# Altium schematic symbol library Rising Clamp System WR-TBL_10.16 mm.SchLib: 81 symbols
Pins are listed as number, name and electrical type; pins without a type are passive.

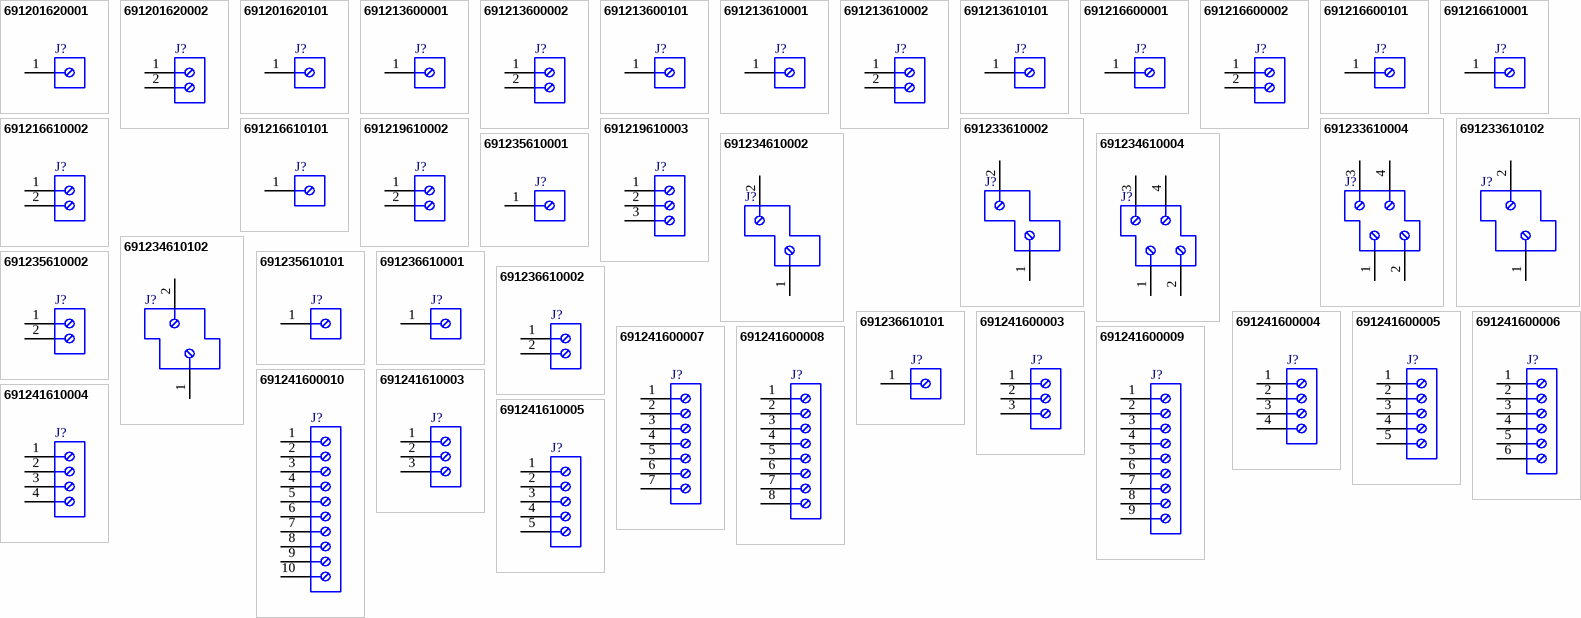
[diagram p0: symbols 691201620001 to 691241610005]

## 691201620001
designator J?
Serie 2016 - 10.16 mm 45deg Entry with Rising Cage Clamp WR-TBL, 1 pin; Part Number: 691201620001; Pin Number: 1; ComponentLink1Description: Manufacturer; ComponentLink1URL: http://www.we-online.de; ComponentLink2Description: Datasheet; ComponentLink2URL: http://katalog.we-online.de/em/datasheet/691201620001.pdf; Published Date: June 2018; Publisher: Wurth Elektronik; Pitch: 10.16 mm; Operating Temperature: -30 to 120 degC; Mounting Technology: THT; Packaging: Box
footprint 691201620001
pins: 1

## 691201620002
designator J?
Serie 2016 - 10.16 mm 45deg Entry with Rising Cage Clamp WR-TBL, 2 pin; Part Number: 691201620002; Pin Number: 2; ComponentLink1Description: Manufacturer; ComponentLink1URL: http://www.we-online.de; ComponentLink2Description: Datasheet; ComponentLink2URL: http://katalog.we-online.de/em/datasheet/691201620002.pdf; Published Date: June 2018; Publisher: Wurth Elektronik; Pitch: 10.16 mm; Operating Temperature: -30 to 120 degC; Mounting Technology: THT; Packaging: Box
footprint 691201620002
pins: 1, 2

## 691201620101
designator J?
Serie 2016 - 10.16 mm 45deg Entry with Rising Cage Clamp WR-TBL, 1 pin; Part Number: 691201620101; Pin Number: 1; ComponentLink1Description: Manufacturer; ComponentLink1URL: http://www.we-online.de; ComponentLink2Description: Datasheet; ComponentLink2URL: http://katalog.we-online.de/em/datasheet/691201620101.pdf; Published Date: June 2018; Publisher: Wurth Elektronik; Pitch: 10.16 mm; Operating Temperature: -30 to 120 degC; Mounting Technology: THT; Packaging: Box
footprint 691201620101
pins: 1

## 691213600001
designator J?
Serie 2136 - 10.16 mm Vertical Entry with Rising Cage Clamp WR-TBL, 1 pin; Part Number: 691213600001; Pin Number: 1; ComponentLink1Description: Manufacturer; ComponentLink1URL: http://www.we-online.de; ComponentLink2Description: Datasheet; ComponentLink2URL: http://katalog.we-online.de/em/datasheet/691213600001.pdf; Published Date: June 2018; Publisher: Wurth Elektronik; Pitch: 10.16 mm; Operating Temperature: -30 to 120 degC; Mounting Technology: THT; Packaging: Box
footprint 691213600001
pins: 1

## 691213600002
designator J?
Serie 2136 - 10.16 mm Vertical Entry with Rising Cage Clamp WR-TBL, 2 pin; Part Number: 691213600002; Pin Number: 2; ComponentLink1Description: Manufacturer; ComponentLink1URL: http://www.we-online.de; ComponentLink2Description: Datasheet; ComponentLink2URL: http://katalog.we-online.de/em/datasheet/691213600002.pdf; Published Date: June 2018; Publisher: Wurth Elektronik; Pitch: 10.16 mm; Operating Temperature: -30 to 120 degC; Mounting Technology: THT; Packaging: Box
footprint 691213600002
pins: 1, 2

## 691213600101
designator J?
Serie 2136 - 10.16 mm Vertical Entry with Rising Cage Clamp WR-TBL, 1 pin; Part Number: 691213600101; Pin Number: 1; ComponentLink1Description: Manufacturer; ComponentLink1URL: http://www.we-online.de; ComponentLink2Description: Datasheet; ComponentLink2URL: http://katalog.we-online.de/em/datasheet/691213600101.pdf; Published Date: June 2018; Publisher: Wurth Elektronik; Pitch: 10.16 mm; Operating Temperature: -30 to 120 degC; Mounting Technology: THT; Packaging: Box
footprint 691213600101
pins: 1

## 691213610001
designator J?
Serie 2136 - 10.16 mm Horizontal Entry with Rising Cage Clamp WR-TBL, 1 pin; Part Number: 691213610001; Pin Number: 1; ComponentLink1Description: Manufacturer; ComponentLink1URL: http://www.we-online.de; ComponentLink2Description: Datasheet; ComponentLink2URL: http://katalog.we-online.de/em/datasheet/691213610001.pdf; Published Date: June 2018; Publisher: Wurth Elektronik; Pitch: 10.16 mm; Operating Temperature: -30 to 120 degC; Mounting Technology: THT; Packaging: Box
footprint 691213610001
pins: 1

## 691213610002
designator J?
Serie 2136 - 10.16 mm Horizontal Entry with Rising Cage Clamp WR-TBL, 2 pin; Part Number: 691213610002; Pin Number: 2; ComponentLink1Description: Manufacturer; ComponentLink1URL: http://www.we-online.de; ComponentLink2Description: Datasheet; ComponentLink2URL: http://katalog.we-online.de/em/datasheet/691213610002.pdf; Published Date: June 2018; Publisher: Wurth Elektronik; Pitch: 10.16 mm; Operating Temperature: -30 to 120 degC; Mounting Technology: THT; Packaging: Box
footprint 691213610002
pins: 1, 2

## 691213610101
designator J?
Serie 2136 - 10.16 mm Horizontal Entry with Rising Cage Clamp WR-TBL, 1 pin; Part Number: 691213610101; Pin Number: 1; ComponentLink1Description: Manufacturer; ComponentLink1URL: http://www.we-online.de; ComponentLink2Description: Datasheet; ComponentLink2URL: http://katalog.we-online.de/em/datasheet/691213610101.pdf; Published Date: June 2018; Publisher: Wurth Elektronik; Pitch: 10.16 mm; Operating Temperature: -30 to 120 degC; Mounting Technology: THT; Packaging: Box
footprint 691213610101
pins: 1

## 691216600001
designator J?
Serie 2166 - 10.16 mm Vertical Entry with Rising Cage Clamp WR-TBL, 1 pin; Part Number: 691216600001; Pin Number: 1; ComponentLink1Description: Manufacturer; ComponentLink1URL: http://www.we-online.de; ComponentLink2Description: Datasheet; ComponentLink2URL: http://katalog.we-online.de/em/datasheet/691216600001.pdf; Published Date: June 2018; Publisher: Wurth Elektronik; Pitch: 10.16 mm; Operating Temperature: -30 to 120 degC; Mounting Technology: THT; Packaging: Box
footprint 691216600001
pins: 1

## 691216600002
designator J?
Serie 2166 - 10.16 mm Vertical Entry with Rising Cage Clamp WR-TBL, 2 pin; Part Number: 691216600002; Pin Number: 2; ComponentLink1Description: Manufacturer; ComponentLink1URL: http://www.we-online.de; ComponentLink2Description: Datasheet; ComponentLink2URL: http://katalog.we-online.de/em/datasheet/691216600002.pdf; Published Date: June 2018; Publisher: Wurth Elektronik; Pitch: 10.16 mm; Operating Temperature: -30 to 120 degC; Mounting Technology: THT; Packaging: Box
footprint 691216600002
pins: 1, 2

## 691216600101
designator J?
Serie 2166 - 10.16 mm Vertical Entry with Rising Cage Clamp WR-TBL, 1 pin; Part Number: 691216600101; Pin Number: 1; ComponentLink1Description: Manufacturer; ComponentLink1URL: http://www.we-online.de; ComponentLink2Description: Datasheet; ComponentLink2URL: http://katalog.we-online.de/em/datasheet/691216600101.pdf; Published Date: June 2018; Publisher: Wurth Elektronik; Pitch: 10.16 mm; Operating Temperature: -30 to 120 degC; Mounting Technology: THT; Packaging: Box
footprint 691216600101
pins: 1

## 691216610001
designator J?
Serie 2166 - 10.16 mm Horizontal Entry with Rising Cage Clamp WR-TBL, 1 pin; Part Number: 691216610001; Pin Number: 1; ComponentLink1Description: Manufacturer; ComponentLink1URL: http://www.we-online.de; ComponentLink2Description: Datasheet; ComponentLink2URL: http://katalog.we-online.de/em/datasheet/691216610001.pdf; Published Date: June 2018; Publisher: Wurth Elektronik; Pitch: 10.16 mm; Operating Temperature: -30 to 120 degC; Mounting Technology: THT; Packaging: Box
footprint 691216610001
pins: 1

## 691216610002
designator J?
Serie 2166 - 10.16 mm Horizontal Entry with Rising Cage Clamp WR-TBL, 2 pin; Part Number: 691216610002; Pin Number: 2; ComponentLink1Description: Manufacturer; ComponentLink1URL: http://www.we-online.de; ComponentLink2Description: Datasheet; ComponentLink2URL: http://katalog.we-online.de/em/datasheet/691216610002.pdf; Published Date: June 2018; Publisher: Wurth Elektronik; Pitch: 10.16 mm; Operating Temperature: -30 to 120 degC; Mounting Technology: THT; Packaging: Box
footprint 691216610002
pins: 1, 2

## 691216610101
designator J?
Serie 2166 - 10.16 mm Horizontal Entry with Rising Cage Clamp WR-TBL, 1 pin; Part Number: 691216610101; Pin Number: 1; ComponentLink1Description: Manufacturer; ComponentLink1URL: http://www.we-online.de; ComponentLink2Description: Datasheet; ComponentLink2URL: http://katalog.we-online.de/em/datasheet/691216610101.pdf; Published Date: June 2018; Publisher: Wurth Elektronik; Pitch: 10.16 mm; Operating Temperature: -30 to 120 degC; Mounting Technology: THT; Packaging: Box
footprint 691216610101
pins: 1

## 691219610002
designator J?
Serie 2196 - 10.16 mm Horizontal Entry Modular WR-TBL, 2 pin; Part Number: 691219610002; Pin Number: 2; ComponentLink1Description: Manufacturer; ComponentLink1URL: http://www.we-online.de; ComponentLink2Description: Datasheet; ComponentLink2URL: http://katalog.we-online.de/em/datasheet/6912196100xx.pdf; Published Date: June 2018; Publisher: Wurth Elektronik; Pitch: 10.16 mm; Operating Temperature: -40 to 105 degC; Mounting Technology: THT; Packaging: Box
footprint 691219610002
pins: 1, 2

## 691219610003
designator J?
Serie 2196 - 10.16 mm Horizontal Entry Modular WR-TBL, 3 pin; Part Number: 691219610003; Pin Number: 3; ComponentLink1Description: Manufacturer; ComponentLink1URL: http://www.we-online.de; ComponentLink2Description: Datasheet; ComponentLink2URL: http://katalog.we-online.de/em/datasheet/6912196100xx.pdf; Published Date: June 2018; Publisher: Wurth Elektronik; Pitch: 10.16 mm; Operating Temperature: -40 to 105 degC; Mounting Technology: THT; Packaging: Box
footprint 691219610003
pins: 1, 2, 3

## 691233610002
designator J?
Serie 2336 - 10.16 mm Horizontal Entry with Rising Cage Clamp WR-TBL, 2 pin; Part Number: 691233610002; Pin Number: 2; ComponentLink1Description: Manufacturer; ComponentLink1URL: http://www.we-online.de; ComponentLink2Description: Datasheet; ComponentLink2URL: http://katalog.we-online.de/em/datasheet/691233610002.pdf; Published Date: June 2018; Publisher: Wurth Elektronik; Pitch: 10.16 mm; Operating Temperature: -30 to 120 degC; Mounting Technology: THT; Packaging: Box
footprint 691233610002
pins: 1, 2

## 691233610004
designator J?
Serie 2336 - 10.16 mm Horizontal Entry with Rising Cage Clamp WR-TBL, 4 pin; Part Number: 691233610004; Pin Number: 4; ComponentLink1Description: Manufacturer; ComponentLink1URL: http://www.we-online.de; ComponentLink2Description: Datasheet; ComponentLink2URL: http://katalog.we-online.de/em/datasheet/691233610004.pdf; Published Date: June 2018; Publisher: Wurth Elektronik; Pitch: 10.16 mm; Operating Temperature: -30 to 120 degC; Mounting Technology: THT; Packaging: Box
footprint 691233610004
pins: 1, 2, 3, 4

## 691233610102
designator J?
Serie 2336 - 10.16 mm Horizontal Entry with Rising Cage Clamp WR-TBL, 2 pin; Part Number: 691233610102; Pin Number: 2; ComponentLink1Description: Manufacturer; ComponentLink1URL: http://www.we-online.de; ComponentLink2Description: Datasheet; ComponentLink2URL: http://katalog.we-online.de/em/datasheet/691233610102.pdf; Published Date: June 2018; Publisher: Wurth Elektronik; Pitch: 10.16 mm; Operating Temperature: -30 to 120 degC; Mounting Technology: THT; Packaging: Box
footprint 691233610102
pins: 1, 2

## 691234610002
designator J?
Serie 2346 - 10.16 mm Horizontal Entry with Rising Cage Clamp WR-TBL, 2 pin; Part Number: 691234610002; Pin Number: 2; ComponentLink1Description: Manufacturer; ComponentLink1URL: http://www.we-online.de; ComponentLink2Description: Datasheet; ComponentLink2URL: http://katalog.we-online.de/em/datasheet/691234610002.pdf; Published Date: June 2018; Publisher: Wurth Elektronik; Pitch: 10.16 mm; Operating Temperature: -30 to 120 degC; Mounting Technology: THT; Packaging: Box
footprint 691234610002
pins: 1, 2

## 691234610004
designator J?
Serie 2346 - 10.16 mm Horizontal Entry with Rising Cage Clamp WR-TBL, 4 pin; Part Number: 691234610004; Pin Number: 4; ComponentLink1Description: Manufacturer; ComponentLink1URL: http://www.we-online.de; ComponentLink2Description: Datasheet; ComponentLink2URL: http://katalog.we-online.de/em/datasheet/691234610004.pdf; Published Date: June 2018; Publisher: Wurth Elektronik; Pitch: 10.16 mm; Operating Temperature: -30 to 120 degC; Mounting Technology: THT; Packaging: Box
footprint 691234610004
pins: 1, 2, 3, 4

## 691234610102
designator J?
Serie 2346 - 10.16 mm Horizontal Entry with Rising Cage Clamp WR-TBL, 2 pin; Part Number: 691234610102; Pin Number: 2; ComponentLink1Description: Manufacturer; ComponentLink1URL: http://www.we-online.de; ComponentLink2Description: Datasheet; ComponentLink2URL: http://katalog.we-online.de/em/datasheet/691234610102.pdf; Published Date: June 2018; Publisher: Wurth Elektronik; Pitch: 10.16 mm; Operating Temperature: -30 to 120 degC; Mounting Technology: THT; Packaging: Box
footprint 691234610102
pins: 1, 2

## 691235610001
designator J?
Serie 2356 - 10.16 mm Horizontal Entry with Rising Cage Clamp WR-TBL, 1 pin; Part Number: 691235610001; Pin Number: 1; ComponentLink1Description: Manufacturer; ComponentLink1URL: http://www.we-online.de; ComponentLink2Description: Datasheet; ComponentLink2URL: http://katalog.we-online.de/em/datasheet/691235610001.pdf; Published Date: June 2018; Publisher: Wurth Elektronik; Pitch: 10.16 mm; Operating Temperature: -30 to 120 degC; Mounting Technology: THT; Packaging: Box
footprint 691235610001
pins: 1

## 691235610002
designator J?
Serie 2356 - 10.16 mm Horizontal Entry with Rising Cage Clamp WR-TBL, 2 pin; Part Number: 691235610002; Pin Number: 2; ComponentLink1Description: Manufacturer; ComponentLink1URL: http://www.we-online.de; ComponentLink2Description: Datasheet; ComponentLink2URL: http://katalog.we-online.de/em/datasheet/691235610002.pdf; Published Date: June 2018; Publisher: Wurth Elektronik; Pitch: 10.16 mm; Operating Temperature: -30 to 120 degC; Mounting Technology: THT; Packaging: Box
footprint 691235610002
pins: 1, 2

## 691235610101
designator J?
Serie 2356 - 10.16 mm Horizontal Entry with Rising Cage Clamp WR-TBL, 1 pin; Part Number: 691235610101; Pin Number: 1; ComponentLink1Description: Manufacturer; ComponentLink1URL: http://www.we-online.de; ComponentLink2Description: Datasheet; ComponentLink2URL: http://katalog.we-online.de/em/datasheet/691235610101.pdf; Published Date: June 2018; Publisher: Wurth Elektronik; Pitch: 10.16 mm; Operating Temperature: -30 to 120 degC; Mounting Technology: THT; Packaging: Box
footprint 691235610101
pins: 1

## 691236610001
designator J?
Serie 2366 - 10.16 mm Horizontal Entry with Rising Cage Clamp WR-TBL, 1 pin; Part Number: 691236610001; Pin Number: 1; ComponentLink1Description: Manufacturer; ComponentLink1URL: http://www.we-online.de; ComponentLink2Description: Datasheet; ComponentLink2URL: http://katalog.we-online.de/em/datasheet/691236610001.pdf; Published Date: June 2018; Publisher: Wurth Elektronik; Pitch: 10.16 mm; Operating Temperature: -30 to 120 degC; Mounting Technology: THT; Packaging: Box
footprint 691236610001
pins: 1

## 691236610002
designator J?
Serie 2366 - 10.16 mm Horizontal Entry with Rising Cage Clamp WR-TBL, 2 pin; Part Number: 691236610002; Pin Number: 2; ComponentLink1Description: Manufacturer; ComponentLink1URL: http://www.we-online.de; ComponentLink2Description: Datasheet; ComponentLink2URL: http://katalog.we-online.de/em/datasheet/691236610002.pdf; Published Date: June 2018; Publisher: Wurth Elektronik; Pitch: 10.16 mm; Operating Temperature: -30 to 120 degC; Mounting Technology: THT; Packaging: Box
footprint 691236610002
pins: 1, 2

## 691236610101
designator J?
Serie 2366 - 10.16 mm Horizontal Entry with Rising Cage Clamp WR-TBL, 1 pin; Part Number: 691236610101; Pin Number: 1; ComponentLink1Description: Manufacturer; ComponentLink1URL: http://www.we-online.de; ComponentLink2Description: Datasheet; ComponentLink2URL: http://katalog.we-online.de/em/datasheet/691236610101.pdf; Published Date: June 2018; Publisher: Wurth Elektronik; Pitch: 10.16 mm; Operating Temperature: -30 to 120 degC; Mounting Technology: THT; Packaging: Box
footprint 691236610101
pins: 1

## 691241600003
designator J?
Serie 2416 - 10.16 mm Vertical Entry with Rising Cage Clamp WR-TBL, 3 pin; Part Number: 691241600003; Pin Number: 3; ComponentLink1Description: Manufacturer; ComponentLink1URL: http://www.we-online.de; ComponentLink2Description: Datasheet; ComponentLink2URL: http://katalog.we-online.de/em/datasheet/691241600003.pdf; Published Date: June 2018; Publisher: Wurth Elektronik; Pitch: 10.16 mm; Operating Temperature: -30 to 120 degC; Mounting Technology: THT; Packaging: Box
footprint 691241600003
pins: 1, 2, 3

## 691241600004
designator J?
Serie 2416 - 10.16 mm Vertical Entry with Rising Cage Clamp WR-TBL, 4 pin; Part Number: 691241600004; Pin Number: 4; ComponentLink1Description: Manufacturer; ComponentLink1URL: http://www.we-online.de; ComponentLink2Description: Datasheet; ComponentLink2URL: http://katalog.we-online.de/em/datasheet/691241600004.pdf; Published Date: June 2018; Publisher: Wurth Elektronik; Pitch: 10.16 mm; Operating Temperature: -30 to 120 degC; Mounting Technology: THT; Packaging: Box
footprint 691241600004
pins: 1, 2, 3, 4

## 691241600005
designator J?
Serie 2416 - 10.16 mm Vertical Entry with Rising Cage Clamp WR-TBL, 5 pin; Part Number: 691241600005; Pin Number: 5; ComponentLink1Description: Manufacturer; ComponentLink1URL: http://www.we-online.de; ComponentLink2Description: Datasheet; ComponentLink2URL: http://katalog.we-online.de/em/datasheet/691241600005.pdf; Published Date: June 2018; Publisher: Wurth Elektronik; Pitch: 10.16 mm; Operating Temperature: -30 to 120 degC; Mounting Technology: THT; Packaging: Box
footprint 691241600005
pins: 1, 2, 3, 4, 5

## 691241600006
designator J?
Serie 2416 - 10.16 mm Vertical Entry with Rising Cage Clamp WR-TBL, 6 pin; Part Number: 691241600006; Pin Number: 6; ComponentLink1Description: Manufacturer; ComponentLink1URL: http://www.we-online.de; ComponentLink2Description: Datasheet; ComponentLink2URL: http://katalog.we-online.de/em/datasheet/691241600006.pdf; Published Date: June 2018; Publisher: Wurth Elektronik; Pitch: 10.16 mm; Operating Temperature: -30 to 120 degC; Mounting Technology: THT; Packaging: Box
footprint 691241600006
pins: 1, 2, 3, 4, 5, 6

## 691241600007
designator J?
Serie 2416 - 10.16 mm Vertical Entry with Rising Cage Clamp WR-TBL, 7 pin; Part Number: 691241600007; Pin Number: 7; ComponentLink1Description: Manufacturer; ComponentLink1URL: http://www.we-online.de; ComponentLink2Description: Datasheet; ComponentLink2URL: http://katalog.we-online.de/em/datasheet/691241600007.pdf; Published Date: June 2018; Publisher: Wurth Elektronik; Pitch: 10.16 mm; Operating Temperature: -30 to 120 degC; Mounting Technology: THT; Packaging: Box
footprint 691241600007
pins: 1, 2, 3, 4, 5, 6, 7

## 691241600008
designator J?
Serie 2416 - 10.16 mm Vertical Entry with Rising Cage Clamp WR-TBL, 8 pin; Part Number: 691241600008; Pin Number: 8; ComponentLink1Description: Manufacturer; ComponentLink1URL: http://www.we-online.de; ComponentLink2Description: Datasheet; ComponentLink2URL: http://katalog.we-online.de/em/datasheet/691241600008.pdf; Published Date: June 2018; Publisher: Wurth Elektronik; Pitch: 10.16 mm; Operating Temperature: -30 to 120 degC; Mounting Technology: THT; Packaging: Box
footprint 691241600008
pins: 1, 2, 3, 4, 5, 6, 7, 8

## 691241600009
designator J?
Serie 2416 - 10.16 mm Vertical Entry with Rising Cage Clamp WR-TBL, 9 pin; Part Number: 691241600009; Pin Number: 9; ComponentLink1Description: Manufacturer; ComponentLink1URL: http://www.we-online.de; ComponentLink2Description: Datasheet; ComponentLink2URL: http://katalog.we-online.de/em/datasheet/691241600009.pdf; Published Date: June 2018; Publisher: Wurth Elektronik; Pitch: 10.16 mm; Operating Temperature: -30 to 120 degC; Mounting Technology: THT; Packaging: Box
footprint 691241600009
pins: 1, 2, 3, 4, 5, 6, 7, 8, 9

## 691241600010
designator J?
Serie 2416 - 10.16 mm Vertical Entry with Rising Cage Clamp WR-TBL, 10 pin; Part Number: 691241600010; Pin Number: 10; ComponentLink1Description: Manufacturer; ComponentLink1URL: http://www.we-online.de; ComponentLink2Description: Datasheet; ComponentLink2URL: http://katalog.we-online.de/em/datasheet/691241600010.pdf; Published Date: June 2018; Publisher: Wurth Elektronik; Pitch: 10.16 mm; Operating Temperature: -30 to 120 degC; Mounting Technology: THT; Packaging: Box
footprint 691241600010
pins: 1, 2, 3, 4, 5, 6, 7, 8, 9, 10

## 691241610003
designator J?
Serie 2416 - 10.16 mm Horizontal Entry with Rising Cage Clamp WR-TBL, 3 pin; Part Number: 691241610003; Pin Number: 3; ComponentLink1Description: Manufacturer; ComponentLink1URL: http://www.we-online.de; ComponentLink2Description: Datasheet; ComponentLink2URL: http://katalog.we-online.de/em/datasheet/691241610003.pdf; Published Date: June 2018; Publisher: Wurth Elektronik; Pitch: 10.16 mm; Operating Temperature: -30 to 120 degC; Mounting Technology: THT; Packaging: Box
footprint 691241610003
pins: 1, 2, 3

## 691241610004
designator J?
Serie 2416 - 10.16 mm Horizontal Entry with Rising Cage Clamp WR-TBL, 4 pin; Part Number: 691241610004; Pin Number: 4; ComponentLink1Description: Manufacturer; ComponentLink1URL: http://www.we-online.de; ComponentLink2Description: Datasheet; ComponentLink2URL: http://katalog.we-online.de/em/datasheet/691241610004.pdf; Published Date: June 2018; Publisher: Wurth Elektronik; Pitch: 10.16 mm; Operating Temperature: -30 to 120 degC; Mounting Technology: THT; Packaging: Box
footprint 691241610004
pins: 1, 2, 3, 4

## 691241610005
designator J?
Serie 2416 - 10.16 mm Horizontal Entry with Rising Cage Clamp WR-TBL, 5 pin; Part Number: 691241610005; Pin Number: 5; ComponentLink1Description: Manufacturer; ComponentLink1URL: http://www.we-online.de; ComponentLink2Description: Datasheet; ComponentLink2URL: http://katalog.we-online.de/em/datasheet/691241610005.pdf; Published Date: June 2018; Publisher: Wurth Elektronik; Pitch: 10.16 mm; Operating Temperature: -30 to 120 degC; Mounting Technology: THT; Packaging: Box
footprint 691241610005
pins: 1, 2, 3, 4, 5

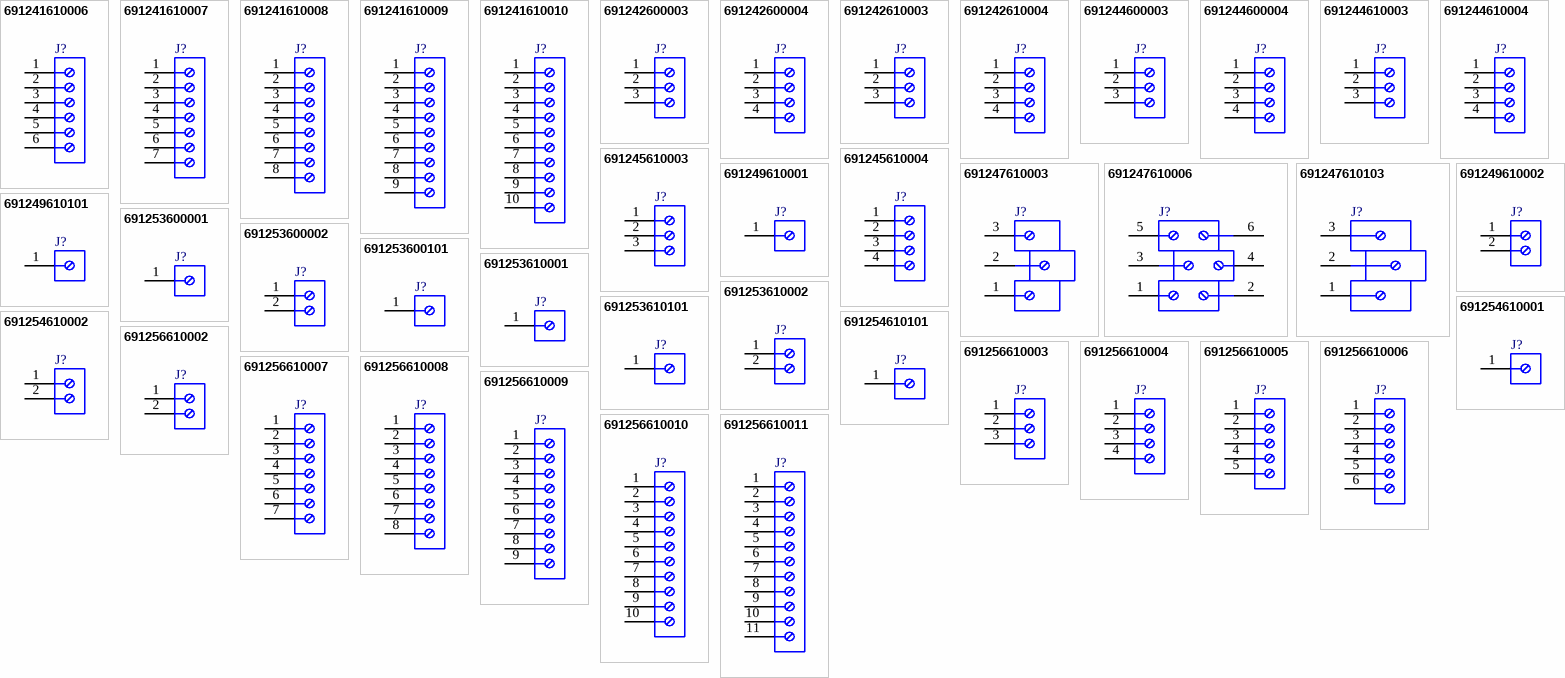
[diagram p1: symbols 691241610006 to 691256610011]

## 691241610006
designator J?
Serie 2416 - 10.16 mm Horizontal Entry with Rising Cage Clamp WR-TBL, 6 pin; Part Number: 691241610006; Pin Number: 6; ComponentLink1Description: Manufacturer; ComponentLink1URL: http://www.we-online.de; ComponentLink2Description: Datasheet; ComponentLink2URL: http://katalog.we-online.de/em/datasheet/691241610006.pdf; Published Date: June 2018; Publisher: Wurth Elektronik; Pitch: 10.16 mm; Operating Temperature: -30 to 120 degC; Mounting Technology: THT; Packaging: Box
footprint 691241610006
pins: 1, 2, 3, 4, 5, 6

## 691241610007
designator J?
Serie 2416 - 10.16 mm Horizontal Entry with Rising Cage Clamp WR-TBL, 7 pin; Part Number: 691241610007; Pin Number: 7; ComponentLink1Description: Manufacturer; ComponentLink1URL: http://www.we-online.de; ComponentLink2Description: Datasheet; ComponentLink2URL: http://katalog.we-online.de/em/datasheet/691241610007.pdf; Published Date: June 2018; Publisher: Wurth Elektronik; Pitch: 10.16 mm; Operating Temperature: -30 to 120 degC; Mounting Technology: THT; Packaging: Box
footprint 691241610007
pins: 1, 2, 3, 4, 5, 6, 7

## 691241610008
designator J?
Serie 2416 - 10.16 mm Horizontal Entry with Rising Cage Clamp WR-TBL, 8 pin; Part Number: 691241610008; Pin Number: 8; ComponentLink1Description: Manufacturer; ComponentLink1URL: http://www.we-online.de; ComponentLink2Description: Datasheet; ComponentLink2URL: http://katalog.we-online.de/em/datasheet/691241610008.pdf; Published Date: June 2018; Publisher: Wurth Elektronik; Pitch: 10.16 mm; Operating Temperature: -30 to 120 degC; Mounting Technology: THT; Packaging: Box
footprint 691241610008
pins: 1, 2, 3, 4, 5, 6, 7, 8

## 691241610009
designator J?
Serie 2416 - 10.16 mm Horizontal Entry with Rising Cage Clamp WR-TBL, 9 pin; Part Number: 691241610009; Pin Number: 9; ComponentLink1Description: Manufacturer; ComponentLink1URL: http://www.we-online.de; ComponentLink2Description: Datasheet; ComponentLink2URL: http://katalog.we-online.de/em/datasheet/691241610009.pdf; Published Date: June 2018; Publisher: Wurth Elektronik; Pitch: 10.16 mm; Operating Temperature: -30 to 120 degC; Mounting Technology: THT; Packaging: Box
footprint 691241610009
pins: 1, 2, 3, 4, 5, 6, 7, 8, 9

## 691241610010
designator J?
Serie 2416 - 10.16 mm Horizontal Entry with Rising Cage Clamp WR-TBL, 10 pin; Part Number: 691241610010; Pin Number: 10; ComponentLink1Description: Manufacturer; ComponentLink1URL: http://www.we-online.de; ComponentLink2Description: Datasheet; ComponentLink2URL: http://katalog.we-online.de/em/datasheet/691241610010.pdf; Published Date: June 2018; Publisher: Wurth Elektronik; Pitch: 10.16 mm; Operating Temperature: -30 to 120 degC; Mounting Technology: THT; Packaging: Box
footprint 691241610010
pins: 1, 2, 3, 4, 5, 6, 7, 8, 9, 10

## 691242600003
designator J?
Serie 2426 - 10.16 mm Vertical Entry Modular with Rising Cage Clamp WR-TBL, 3 pin; Part Number: 691242600003; Pin Number: 3; ComponentLink1Description: Manufacturer; ComponentLink1URL: http://www.we-online.de; ComponentLink2Description: Datasheet; ComponentLink2URL: http://katalog.we-online.de/em/datasheet/691242600003.pdf; Published Date: June 2018; Publisher: Wurth Elektronik; Pitch: 10.16 mm; Operating Temperature: -30 to 120 degC; Mounting Technology: THT; Packaging: Box
footprint 691242600003
pins: 1, 2, 3

## 691242600004
designator J?
Serie 2426 - 10.16 mm Vertical Entry Modular with Rising Cage Clamp WR-TBL, 4 pin; Part Number: 691242600004; Pin Number: 4; ComponentLink1Description: Manufacturer; ComponentLink1URL: http://www.we-online.de; ComponentLink2Description: Datasheet; ComponentLink2URL: http://katalog.we-online.de/em/datasheet/691242600004.pdf; Published Date: June 2018; Publisher: Wurth Elektronik; Pitch: 10.16 mm; Operating Temperature: -30 to 120 degC; Mounting Technology: THT; Packaging: Box
footprint 691242600004
pins: 1, 2, 3, 4

## 691242610003
designator J?
Serie 2426 - 10.16 mm Horizontal Entry Modular with Rising Cage Clamp WR-TBL, 3 pin; Part Number: 691242610003; Pin Number: 3; ComponentLink1Description: Manufacturer; ComponentLink1URL: http://www.we-online.de; ComponentLink2Description: Datasheet; ComponentLink2URL: http://katalog.we-online.de/em/datasheet/691242610003.pdf; Published Date: June 2018; Publisher: Wurth Elektronik; Pitch: 10.16 mm; Operating Temperature: -30 to 120 degC; Mounting Technology: THT; Packaging: Box
footprint 691242610003
pins: 1, 2, 3

## 691242610004
designator J?
Serie 2426 - 10.16 mm Horizontal Entry Modular with Rising Cage Clamp WR-TBL, 4 pin; Part Number: 691242610004; Pin Number: 4; ComponentLink1Description: Manufacturer; ComponentLink1URL: http://www.we-online.de; ComponentLink2Description: Datasheet; ComponentLink2URL: http://katalog.we-online.de/em/datasheet/691242610004.pdf; Published Date: June 2018; Publisher: Wurth Elektronik; Pitch: 10.16 mm; Operating Temperature: -30 to 120 degC; Mounting Technology: THT; Packaging: Box
footprint 691242610004
pins: 1, 2, 3, 4

## 691244600003
designator J?
Serie 2446 - 10.16 mm Vertical Entry Modular with Rising Clamp WR-TBL, 3 pin; Part Number: 691244600003; Pin Number: 3; ComponentLink1Description: Manufacturer; ComponentLink1URL: http://www.we-online.de; ComponentLink2Description: Datasheet; ComponentLink2URL: http://katalog.we-online.de/em/datasheet/6912446000xx.pdf; Published Date: June 2018; Publisher: Wurth Elektronik; Pitch: 10.16 mm; Operating Temperature: -30 to 120 degC; Mounting Technology: THT; Packaging: Box
footprint 691244600003
pins: 1, 2, 3

## 691244600004
designator J?
Serie 2446 - 10.16 mm Vertical Entry Modular with Rising Clamp WR-TBL, 4 pin; Part Number: 691244600004; Pin Number: 4; ComponentLink1Description: Manufacturer; ComponentLink1URL: http://www.we-online.de; ComponentLink2Description: Datasheet; ComponentLink2URL: http://katalog.we-online.de/em/datasheet/6912446000xx.pdf; Published Date: June 2018; Publisher: Wurth Elektronik; Pitch: 10.16 mm; Operating Temperature: -30 to 120 degC; Mounting Technology: THT; Packaging: Box
footprint 691244600004
pins: 1, 2, 3, 4

## 691244610003
designator J?
Serie 2446 - 10.16 mm Horizontal Entry Modular with Rising Cage Clamp WR-TBL, 3 pin; Part Number: 691244610003; Pin Number: 3; ComponentLink1Description: Manufacturer; ComponentLink1URL: http://www.we-online.de; ComponentLink2Description: Datasheet; ComponentLink2URL: http://katalog.we-online.de/em/datasheet/6912446100xx.pdf; Published Date: June 2018; Publisher: Wurth Elektronik; Pitch: 10.16 mm; Operating Temperature: -30 to 120 degC; Mounting Technology: THT; Packaging: Box
footprint 691244610003
pins: 1, 2, 3

## 691244610004
designator J?
Serie 2446 - 10.16 mm Horizontal Entry Modular with Rising Cage Clamp WR-TBL, 4 pin; Part Number: 691244610004; Pin Number: 4; ComponentLink1Description: Manufacturer; ComponentLink1URL: http://www.we-online.de; ComponentLink2Description: Datasheet; ComponentLink2URL: http://katalog.we-online.de/em/datasheet/6912446100xx.pdf; Published Date: June 2018; Publisher: Wurth Elektronik; Pitch: 10.16 mm; Operating Temperature: -30 to 120 degC; Mounting Technology: THT; Packaging: Box
footprint 691244610004
pins: 1, 2, 3, 4

## 691245610003
designator J?
Serie 2456 - 10.16 mm Horizontal Entry with Rising Cage Clamp WR-TBL, 3 pin; Part Number: 691245610003; Pin Number: 3; ComponentLink1Description: Manufacturer; ComponentLink1URL: http://www.we-online.de; ComponentLink2Description: Datasheet; ComponentLink2URL: http://katalog.we-online.de/em/datasheet/6912456100xx.pdf; Published Date: June 2018; Publisher: Wurth Elektronik; Pitch: 10.16 mm; Operating Temperature: -30 to 120 degC; Mounting Technology: THT; Packaging: Box
footprint 691245610003
pins: 1, 2, 3

## 691245610004
designator J?
Serie 2456 - 10.16 mm Horizontal Entry with Rising Cage Clamp WR-TBL, 4 pin; Part Number: 691245610004; Pin Number: 4; ComponentLink1Description: Manufacturer; ComponentLink1URL: http://www.we-online.de; ComponentLink2Description: Datasheet; ComponentLink2URL: http://katalog.we-online.de/em/datasheet/6912456100xx.pdf; Published Date: June 2018; Publisher: Wurth Elektronik; Pitch: 10.16 mm; Operating Temperature: -30 to 120 degC; Mounting Technology: THT; Packaging: Box
footprint 691245610004
pins: 1, 2, 3, 4

## 691247610003
designator J?
Serie 2476 - 10.16 mm Horizontal Entry with Rising Cage Clamp WR-TBL, 3 pin; Part Number: 691247610003; Pin Number: 3; ComponentLink1Description: Manufacturer; ComponentLink1URL: http://www.we-online.de; ComponentLink2Description: Datasheet; ComponentLink2URL: http://katalog.we-online.de/em/datasheet/691247610003.pdf; Published Date: June 2018; Publisher: Wurth Elektronik; Pitch: 10.16 mm; Operating Temperature: -30 to 120 degC; Mounting Technology: THT; Packaging: Box
footprint 691247610003
pins: 1, 2, 3

## 691247610006
designator J?
Serie 2476 - 10.16 mm Horizontal Entry with Rising Cage Clamp WR-TBL, 6 pin; Part Number: 691247610006; Pin Number: 6; ComponentLink1Description: Manufacturer; ComponentLink1URL: http://www.we-online.de; ComponentLink2Description: Datasheet; ComponentLink2URL: http://katalog.we-online.de/em/datasheet/691247610006.pdf; Published Date: June 2018; Publisher: Wurth Elektronik; Pitch: 10.16 mm; Operating Temperature: -30 to 120 degC; Mounting Technology: THT; Packaging: Box
footprint 691247610006
pins: 1, 2, 3, 4, 5, 6

## 691247610103
designator J?
Serie 2476 - 10.16 mm Horizontal Entry with Rising Cage Clamp WR-TBL, 3 pin; Part Number: 691247610103; Pin Number: 3; ComponentLink1Description: Manufacturer; ComponentLink1URL: http://www.we-online.de; ComponentLink2Description: Datasheet; ComponentLink2URL: http://katalog.we-online.de/em/datasheet/691247610103.pdf; Published Date: June 2018; Publisher: Wurth Elektronik; Pitch: 10.16 mm; Operating Temperature: -30 to 120 degC; Mounting Technology: THT; Packaging: Box
footprint 691247610103
pins: 1, 2, 3

## 691249610001
designator J?
Serie 2496 - 10.16 mm Horizontal Entry with Rising Cage Clamp WR-TBL, 1 pin; Part Number: 691249610001; Pin Number: 1; ComponentLink1Description: Manufacturer; ComponentLink1URL: http://www.we-online.de; ComponentLink2Description: Datasheet; ComponentLink2URL: http://katalog.we-online.de/em/datasheet/691249610001.pdf; Published Date: June 2018; Publisher: Wurth Elektronik; Pitch: 10.16 mm; Operating Temperature: -30 to 120 degC; Mounting Technology: THT; Packaging: Box
footprint 691249610001
pins: 1

## 691249610002
designator J?
Serie 2496 - 10.16 mm Horizontal Entry with Rising Cage Clamp WR-TBL, 2 pin; Part Number: 691249610002; Pin Number: 2; ComponentLink1Description: Manufacturer; ComponentLink1URL: http://www.we-online.de; ComponentLink2Description: Datasheet; ComponentLink2URL: http://katalog.we-online.de/em/datasheet/691249610002.pdf; Published Date: June 2018; Publisher: Wurth Elektronik; Pitch: 10.16 mm; Operating Temperature: -30 to 120 degC; Mounting Technology: THT; Packaging: Box
footprint 691249610002
pins: 1, 2

## 691249610101
designator J?
Serie 2496 - 10.16 mm Horizontal Entry with Rising Cage Clamp WR-TBL, 1 pin; Part Number: 691249610101; Pin Number: 1; ComponentLink1Description: Manufacturer; ComponentLink1URL: http://www.we-online.de; ComponentLink2Description: Datasheet; ComponentLink2URL: http://katalog.we-online.de/em/datasheet/691249610101.pdf; Published Date: June 2018; Publisher: Wurth Elektronik; Pitch: 10.16 mm; Operating Temperature: -30 to 120 degC; Mounting Technology: THT; Packaging: Box
footprint 691249610101
pins: 1

## 691253600001
designator J?
Serie 2536 - 10.16 mm Vertical Entry Modular with Rising Cage Clamp WR-TBL, 1 pin; Part Number: 691253600001; Pin Number: 1; ComponentLink1Description: Manufacturer; ComponentLink1URL: http://www.we-online.de; ComponentLink2Description: Datasheet; ComponentLink2URL: http://katalog.we-online.de/em/datasheet/6912536000xx.pdf; Published Date: June 2018; Publisher: Wurth Elektronik; Pitch: 10.16 mm; Operating Temperature: -30 to 120 degC; Mounting Technology: THT; Packaging: Box
footprint 691253600001
pins: 1

## 691253600002
designator J?
Serie 2536 - 10.16 mm Vertical Entry Modular with Rising Cage Clamp WR-TBL, 2 pin; Part Number: 691253600002; Pin Number: 2; ComponentLink1Description: Manufacturer; ComponentLink1URL: http://www.we-online.de; ComponentLink2Description: Datasheet; ComponentLink2URL: http://katalog.we-online.de/em/datasheet/6912536000xx.pdf; Published Date: June 2018; Publisher: Wurth Elektronik; Pitch: 10.16 mm; Operating Temperature: -30 to 120 degC; Mounting Technology: THT; Packaging: Box
footprint 691253600002
pins: 1, 2

## 691253600101
designator J?
Serie 2536 - 10.16 mm Vertical Entry Modular with Rising Cage Clamp WR-TBL, 1 pin; Part Number: 691253600101; Pin Number: 1; ComponentLink1Description: Manufacturer; ComponentLink1URL: http://www.we-online.de; ComponentLink2Description: Datasheet; ComponentLink2URL: http://katalog.we-online.de/em/datasheet/6912536000xx.pdf; Published Date: June 2018; Publisher: Wurth Elektronik; Pitch: 10.16 mm; Operating Temperature: -30 to 120 degC; Mounting Technology: THT; Packaging: Box
footprint 691253600101
pins: 1

## 691253610001
designator J?
Serie 2536 - 10.16 mm Horizontal Entry Modular with Rising Cage Clamp WR-TBL, 1 pin; Part Number: 691253610001; Pin Number: 1; ComponentLink1Description: Manufacturer; ComponentLink1URL: http://www.we-online.de; ComponentLink2Description: Datasheet; ComponentLink2URL: http://katalog.we-online.de/em/datasheet/6912536100xx.pdf; Published Date: June 2018; Publisher: Wurth Elektronik; Pitch: 10.16 mm; Operating Temperature: -30 to 120 degC; Mounting Technology: THT; Packaging: Box
footprint 691253610001
pins: 1

## 691253610002
designator J?
Serie 2536 - 10.16 mm Horizontal Entry Modular with Rising Cage Clamp WR-TBL, 2 pin; Part Number: 691253610002; Pin Number: 2; ComponentLink1Description: Manufacturer; ComponentLink1URL: http://www.we-online.de; ComponentLink2Description: Datasheet; ComponentLink2URL: http://katalog.we-online.de/em/datasheet/6912536100xx.pdf; Published Date: June 2018; Publisher: Wurth Elektronik; Pitch: 10.16 mm; Operating Temperature: -30 to 120 degC; Mounting Technology: THT; Packaging: Box
footprint 691253610002
pins: 1, 2

## 691253610101
designator J?
Serie 2536 - 10.16 mm Horizontal Entry Modular with Rising Cage Clamp WR-TBL, 1 pin; Part Number: 691253610101; Pin Number: 1; ComponentLink1Description: Manufacturer; ComponentLink1URL: http://www.we-online.de; ComponentLink2Description: Datasheet; ComponentLink2URL: http://katalog.we-online.de/em/datasheet/6912536100xx.pdf; Published Date: June 2018; Publisher: Wurth Elektronik; Pitch: 10.16 mm; Operating Temperature: -30 to 120 degC; Mounting Technology: THT; Packaging: Box
footprint 691253610101
pins: 1

## 691254610001
designator J?
Serie 2546 - 10.16 mm Horizontal Entry with Rising Cage Clamp WR-TBL, 1 pin; Part Number: 691254610001; Pin Number: 1; ComponentLink1Description: Manufacturer; ComponentLink1URL: http://www.we-online.de; ComponentLink2Description: Datasheet; ComponentLink2URL: http://katalog.we-online.de/em/datasheet/6912546100xx.pdf; Published Date: June 2018; Publisher: Wurth Elektronik; Pitch: 10.16 mm; Operating Temperature: -30 to 120 degC; Mounting Technology: THT; Packaging: Box
footprint 691254610001
pins: 1

## 691254610002
designator J?
Serie 2546 - 10.16 mm Horizontal Entry with Rising Cage Clamp WR-TBL, 2 pin; Part Number: 691254610002; Pin Number: 2; ComponentLink1Description: Manufacturer; ComponentLink1URL: http://www.we-online.de; ComponentLink2Description: Datasheet; ComponentLink2URL: http://katalog.we-online.de/em/datasheet/6912546100xx.pdf; Published Date: June 2018; Publisher: Wurth Elektronik; Pitch: 10.16 mm; Operating Temperature: -30 to 120 degC; Mounting Technology: THT; Packaging: Box
footprint 691254610002
pins: 1, 2

## 691254610101
designator J?
Serie 2546 - 10.16 mm Horizontal Entry with Rising Cage Clamp WR-TBL, 1 pin; Part Number: 691254610101; Pin Number: 1; ComponentLink1Description: Manufacturer; ComponentLink1URL: http://www.we-online.de; ComponentLink2Description: Datasheet; ComponentLink2URL: http://katalog.we-online.de/em/datasheet/6912546100xx.pdf; Published Date: June 2018; Publisher: Wurth Elektronik; Pitch: 10.16 mm; Operating Temperature: -30 to 120 degC; Mounting Technology: THT; Packaging: Box
footprint 691254610101
pins: 1

## 691256610002
designator J?
Serie 2566 - 10.16 mm Horizontal Entry with Rising Cage Clamp WR-TBL, 2 pin; Part Number: 691256610002; Pin Number: 2; ComponentLink1Description: Manufacturer; ComponentLink1URL: http://www.we-online.de; ComponentLink2Description: Datasheet; ComponentLink2URL: http://katalog.we-online.de/em/datasheet/691256610002.pdf; Published Date: June 2018; Publisher: Wurth Elektronik; Pitch: 10.16 mm; Operating Temperature: -30 to 120 degC; Mounting Technology: THT; Packaging: Box
footprint 691256610002
pins: 1, 2

## 691256610003
designator J?
Serie 2566 - 10.16 mm Horizontal Entry with Rising Cage Clamp WR-TBL, 3 pin; Part Number: 691256610003; Pin Number: 3; ComponentLink1Description: Manufacturer; ComponentLink1URL: http://www.we-online.de; ComponentLink2Description: Datasheet; ComponentLink2URL: http://katalog.we-online.de/em/datasheet/691256610003.pdf; Published Date: June 2018; Publisher: Wurth Elektronik; Pitch: 10.16 mm; Operating Temperature: -30 to 120 degC; Mounting Technology: THT; Packaging: Box
footprint 691256610003
pins: 1, 2, 3

## 691256610004
designator J?
Serie 2566 - 10.16 mm Horizontal Entry with Rising Cage Clamp WR-TBL, 4 pin; Part Number: 691256610004; Pin Number: 4; ComponentLink1Description: Manufacturer; ComponentLink1URL: http://www.we-online.de; ComponentLink2Description: Datasheet; ComponentLink2URL: http://katalog.we-online.de/em/datasheet/691256610004.pdf; Published Date: June 2018; Publisher: Wurth Elektronik; Pitch: 10.16 mm; Operating Temperature: -30 to 120 degC; Mounting Technology: THT; Packaging: Box
footprint 691256610004
pins: 1, 2, 3, 4

## 691256610005
designator J?
Serie 2566 - 10.16 mm Horizontal Entry with Rising Cage Clamp WR-TBL, 5 pin; Part Number: 691256610005; Pin Number: 5; ComponentLink1Description: Manufacturer; ComponentLink1URL: http://www.we-online.de; ComponentLink2Description: Datasheet; ComponentLink2URL: http://katalog.we-online.de/em/datasheet/691256610005.pdf; Published Date: June 2018; Publisher: Wurth Elektronik; Pitch: 10.16 mm; Operating Temperature: -30 to 120 degC; Mounting Technology: THT; Packaging: Box
footprint 691256610005
pins: 1, 2, 3, 4, 5

## 691256610006
designator J?
Serie 2566 - 10.16 mm Horizontal Entry with Rising Cage Clamp WR-TBL, 6 pin; Part Number: 691256610006; Pin Number: 6; ComponentLink1Description: Manufacturer; ComponentLink1URL: http://www.we-online.de; ComponentLink2Description: Datasheet; ComponentLink2URL: http://katalog.we-online.de/em/datasheet/691256610006.pdf; Published Date: June 2018; Publisher: Wurth Elektronik; Pitch: 10.16 mm; Operating Temperature: -30 to 120 degC; Mounting Technology: THT; Packaging: Box
footprint 691256610006
pins: 1, 2, 3, 4, 5, 6

## 691256610007
designator J?
Serie 2566 - 10.16 mm Horizontal Entry with Rising Cage Clamp WR-TBL, 7 pin; Part Number: 691256610007; Pin Number: 7; ComponentLink1Description: Manufacturer; ComponentLink1URL: http://www.we-online.de; ComponentLink2Description: Datasheet; ComponentLink2URL: http://katalog.we-online.de/em/datasheet/691256610007.pdf; Published Date: June 2018; Publisher: Wurth Elektronik; Pitch: 10.16 mm; Operating Temperature: -30 to 120 degC; Mounting Technology: THT; Packaging: Box
footprint 691256610007
pins: 1, 2, 3, 4, 5, 6, 7

## 691256610008
designator J?
Serie 2566 - 10.16 mm Horizontal Entry with Rising Cage Clamp WR-TBL, 8 pin; Part Number: 691256610008; Pin Number: 8; ComponentLink1Description: Manufacturer; ComponentLink1URL: http://www.we-online.de; ComponentLink2Description: Datasheet; ComponentLink2URL: http://katalog.we-online.de/em/datasheet/691256610008.pdf; Published Date: June 2018; Publisher: Wurth Elektronik; Pitch: 10.16 mm; Operating Temperature: -30 to 120 degC; Mounting Technology: THT; Packaging: Box
footprint 691256610008
pins: 1, 2, 3, 4, 5, 6, 7, 8

## 691256610009
designator J?
Serie 2566 - 10.16 mm Horizontal Entry with Rising Cage Clamp WR-TBL, 9 pin; Part Number: 691256610009; Pin Number: 9; ComponentLink1Description: Manufacturer; ComponentLink1URL: http://www.we-online.de; ComponentLink2Description: Datasheet; ComponentLink2URL: http://katalog.we-online.de/em/datasheet/691256610009.pdf; Published Date: June 2018; Publisher: Wurth Elektronik; Pitch: 10.16 mm; Operating Temperature: -30 to 120 degC; Mounting Technology: THT; Packaging: Box
footprint 691256610009
pins: 1, 2, 3, 4, 5, 6, 7, 8, 9

## 691256610010
designator J?
Serie 2566 - 10.16 mm Horizontal Entry with Rising Cage Clamp WR-TBL, 10 pin; Part Number: 691256610010; Pin Number: 10; ComponentLink1Description: Manufacturer; ComponentLink1URL: http://www.we-online.de; ComponentLink2Description: Datasheet; ComponentLink2URL: http://katalog.we-online.de/em/datasheet/691256610010.pdf; Published Date: June 2018; Publisher: Wurth Elektronik; Pitch: 10.16 mm; Operating Temperature: -30 to 120 degC; Mounting Technology: THT; Packaging: Box
footprint 691256610010
pins: 1, 2, 3, 4, 5, 6, 7, 8, 9, 10

## 691256610011
designator J?
Serie 2566 - 10.16 mm Horizontal Entry with Rising Cage Clamp WR-TBL, 11 pin; Part Number: 691256610011; Pin Number: 11; ComponentLink1Description: Manufacturer; ComponentLink1URL: http://www.we-online.de; ComponentLink2Description: Datasheet; ComponentLink2URL: http://katalog.we-online.de/em/datasheet/691256610011.pdf; Published Date: June 2018; Publisher: Wurth Elektronik; Pitch: 10.16 mm; Operating Temperature: -30 to 120 degC; Mounting Technology: THT; Packaging: Box
footprint 691256610011
pins: 1, 2, 3, 4, 5, 6, 7, 8, 9, 10, 11

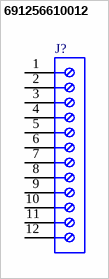
[diagram p2: symbol 691256610012]

## 691256610012
designator J?
Serie 2566 - 10.16 mm Horizontal Entry with Rising Cage Clamp WR-TBL, 12 pin; Part Number: 691256610012; Pin Number: 12; ComponentLink1Description: Manufacturer; ComponentLink1URL: http://www.we-online.de; ComponentLink2Description: Datasheet; ComponentLink2URL: http://katalog.we-online.de/em/datasheet/691256610012.pdf; Published Date: June 2018; Publisher: Wurth Elektronik; Pitch: 10.16 mm; Operating Temperature: -30 to 120 degC; Mounting Technology: THT; Packaging: Box
footprint 691256610012
pins: 1, 2, 3, 4, 5, 6, 7, 8, 9, 10, 11, 12